# Altium footprint library JR78201054ZBWJ_20170508.PcbLib: 21 footprints (part 1 of 2)
Each footprint in its own frame and in the unit in brackets; x right, y up, seen from the top. Pads: shape width x height; smd on the part's side, far side on the other; paste and mask are expansions set on the pad; w line width, h text height; cw(c..) or ccw(c..) is an arc to the next point about the centre after c.
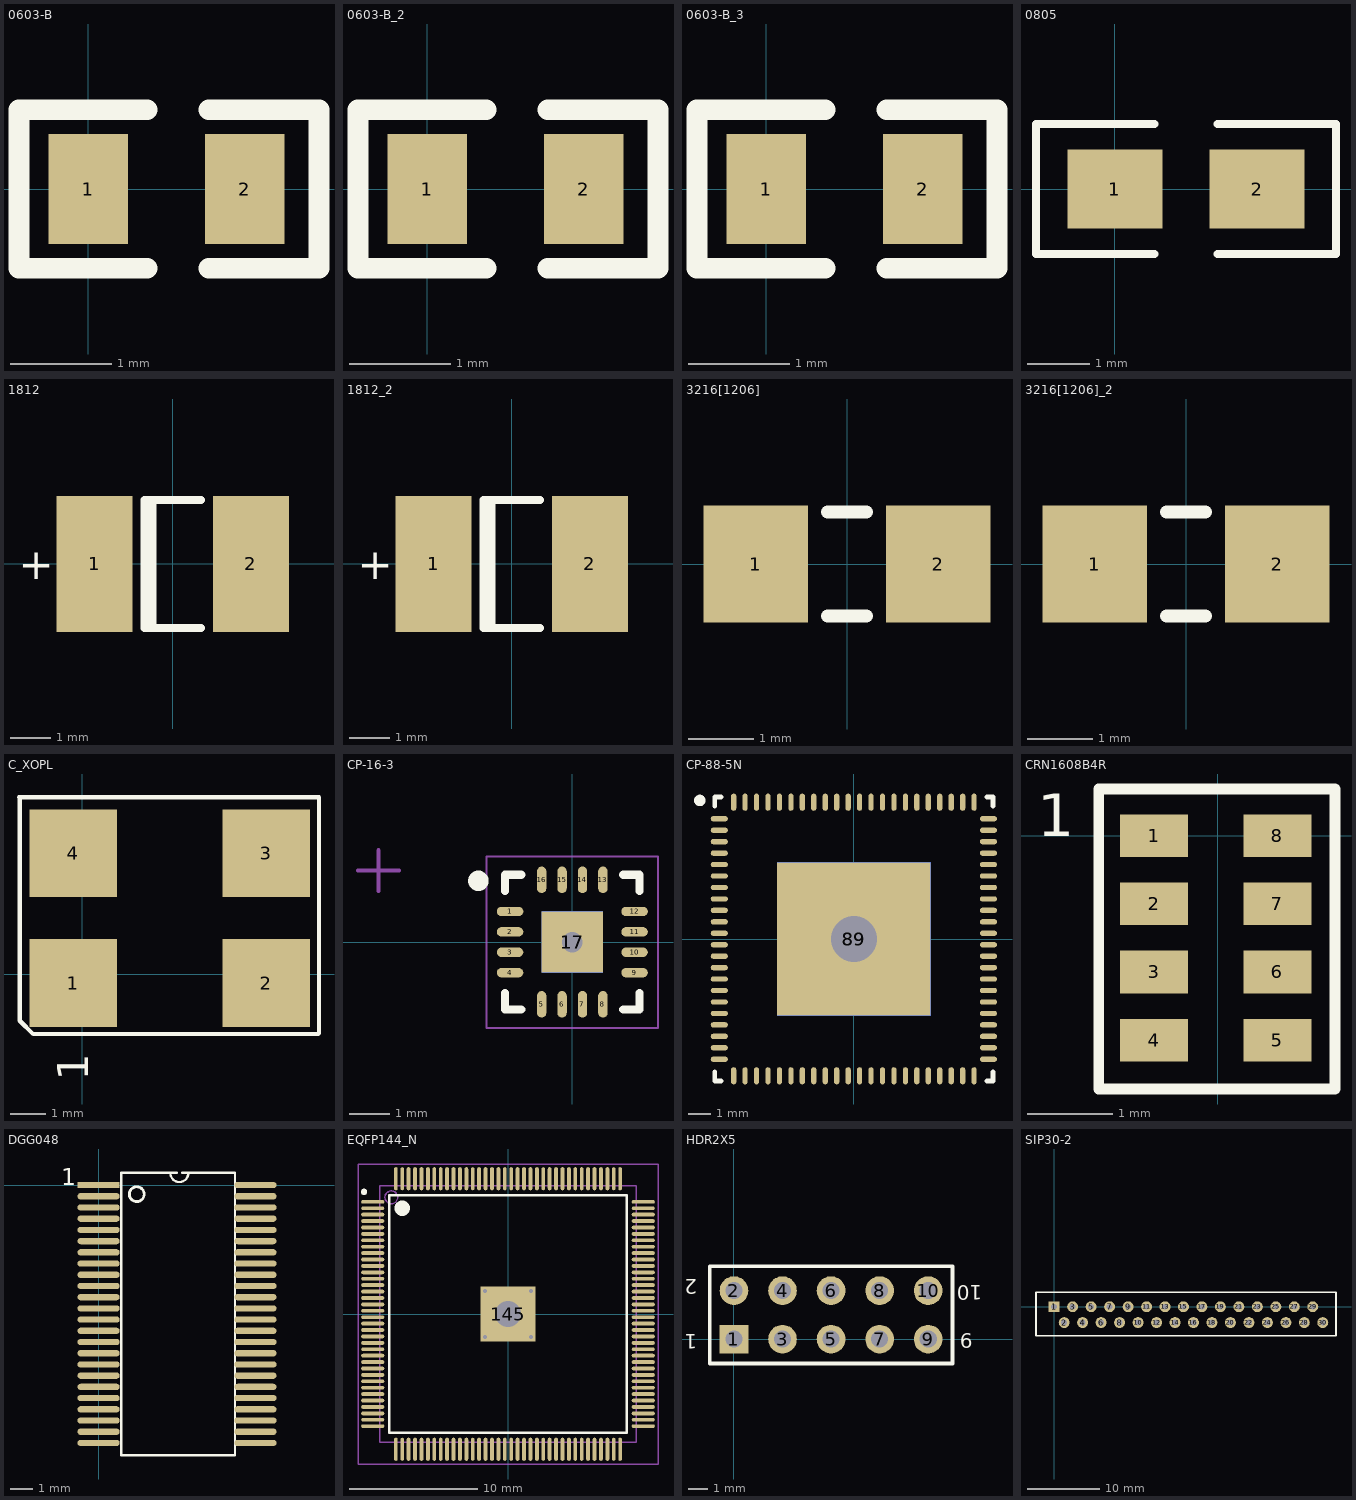
[diagram p0: the footprints below, top view; thin cyan lines are the x and y axes]

## 0603-B [mil]
pads (2):
  rect 31x43 smd: 1(0,0) 2(61,0)
Top Overlay:
  lines w8: 23,-31 -27,-31 -27,31 23,31 ; 47,-31 90,-31 90,31 47,31

## 0603-B_2 [mil]
pads (2):
  rect 31x43 smd: 1(0,0) 2(61,0)
Top Overlay:
  lines w8: 23,-31 -27,-31 -27,31 23,31 ; 47,-31 90,-31 90,31 47,31

## 0603-B_3 [mil]
pads (2):
  rect 31x43 smd: 1(0,0) 2(61,0)
Top Overlay:
  lines w8: 23,-31 -27,-31 -27,31 23,31 ; 47,-31 90,-31 90,31 47,31

## 0805 [mil]
pads (2):
  rect 60x50 smd: 1(0,0) 2(90,0)
Top Overlay:
  lines w5: 25,-41.06 -50,-41.06 -50,41.06 25,41.06 ; 65,-41.06 140,-41.06 140,41.06 65,41.06

## 1812 [mm]
height 1.6
pads (2):
  rect 1.9x3.4 smd: 1(-1.95,0) 2(1.95,0)
Top Overlay:
  lines w0.2: -0.51,-1.6 -0.51,1.6 ; 0.7,-1.6 -0.7,-1.6 -0.7,1.6 0.7,1.6
  text "+" at -3.835,-0.381 h0.76

## 1812_2 [mm]
pads (2):
  rect 1.9x3.4 smd: 1(-1.95,0) 2(1.95,0)
Top Overlay:
  lines w0.2: -0.51,-1.6 -0.51,1.6 ; 0.7,-1.6 -0.7,-1.6 -0.7,1.6 0.7,1.6
  text "+" at -3.835,-0.381 h0.76

## 3216[1206] [mm]
height 0.55
pads (2):
  rect 1.6x1.8 smd: 1(-1.4,0) 2(1.4,0)
Top Overlay:
  lines w0.2: -0.3,-0.8 0.3,-0.8 ; -0.3,0.8 0.3,0.8

## 3216[1206]_2 [mm]
pads (2):
  rect 1.6x1.8 smd: 1(-1.4,0) 2(1.4,0)
Top Overlay:
  lines w0.2: -0.3,-0.8 0.3,-0.8 ; -0.3,0.8 0.3,0.8

## C_XOPL [mm]
height 8.89
pads (4):
  rect 2.5x2.5 smd: 1(-0.25,-0.25) 2(5.25,-0.25) 3(5.25,3.45) 4(-0.25,3.45)
Top Overlay:
  lines w0.127: -1.8,5.05 -1.775,5.025 -1.775,-1.325 -1.4,-1.7 6.725,-1.7 6.75,-1.675 6.75,5.05 -1.8,5.05
  text "1" at 0.168,-3.036 h0.89

## CP-16-3 [mm]
height 0.9
pads (18):
  oval 0.65x0.23 smd: 1(-1.525,0.75) 2(-1.525,0.25) 3(-1.525,-0.25) 4(-1.525,-0.75) 9(1.525,-0.75) 10(1.525,-0.25) 11(1.525,0.25) 12(1.525,0.75)
  oval 0.23x0.65 smd: 5(-0.75,-1.525) 6(-0.25,-1.525) 7(0.25,-1.525) 8(0.75,-1.525) 13(0.75,1.525) 14(0.25,1.525) 15(-0.25,1.525) 16(-0.75,1.525)
  rect 1.5x1.5 smd: 17(0,0)
  rect 1.5x1.5 smd far side: 17(0,0)
via 0,0 diameter 0.835 hole 0.5
Top Overlay:
  circle w0.25: c-2.3,1.5 r0.125
  lines w0.2: -1.65,-1.25 -1.65,-1.65 -1.25,-1.65 ; -1.65,1.25 -1.65,1.65 -1.25,1.65 ; 1.25,-1.65 1.65,-1.65 1.65,-1.25 ; 1.25,1.65 1.65,1.65 1.65,1.25
Mechanical 15:
  lines w0.05: -2.1,-2.1 -2.1,2.1 2.1,2.1 2.1,-2.1 -2.1,-2.1
  lines w0.1: -5.25,1.75 -4.25,1.75 ; -4.75,1.25 -4.75,2.25 ; -0.5,0 0.5,0 ; 0,-0.5 0,0.5

## CP-88-5N [mm]
height 0.9
pads (90):
  oval 0.75x0.23 smd: 1(-5.875,5.25) 2(-5.875,4.75) 3(-5.875,4.25) 4(-5.875,3.75) 5(-5.875,3.25) 6(-5.875,2.75) 7(-5.875,2.25) 8(-5.875,1.75) 9(-5.875,1.25) 10(-5.875,0.75) 11(-5.875,0.25) 12(-5.875,-0.25) 13(-5.875,-0.75) 14(-5.875,-1.25) 15(-5.875,-1.75) 16(-5.875,-2.25) 17(-5.875,-2.75) 18(-5.875,-3.25) 19(-5.875,-3.75) 20(-5.875,-4.25) 21(-5.875,-4.75) 22(-5.875,-5.25) 45(5.875,-5.25) 46(5.875,-4.75) 47(5.875,-4.25) 48(5.875,-3.75) 49(5.875,-3.25) 50(5.875,-2.75) 51(5.875,-2.25) 52(5.875,-1.75) 53(5.875,-1.25) 54(5.875,-0.75) 55(5.875,-0.25) 56(5.875,0.25) 57(5.875,0.75) 58(5.875,1.25) 59(5.875,1.75) 60(5.875,2.25) 61(5.875,2.75) 62(5.875,3.25) 63(5.875,3.75) 64(5.875,4.25) 65(5.875,4.75) 66(5.875,5.25)
  oval 0.23x0.75 smd: 23(-5.25,-5.975) 24(-4.75,-5.975) 25(-4.25,-5.975) 26(-3.75,-5.975) 27(-3.25,-5.975) 28(-2.75,-5.975) 29(-2.25,-5.975) 30(-1.75,-5.975) 31(-1.25,-5.975) 32(-0.75,-5.975) 33(-0.25,-5.975) 34(0.25,-5.975) 35(0.75,-5.975) 36(1.25,-5.975) 37(1.75,-5.975) 38(2.25,-5.975) 39(2.75,-5.975) 40(3.25,-5.975) 41(3.75,-5.975) 42(4.25,-5.975) 43(4.75,-5.975) 44(5.25,-5.975) 67(5.25,5.975) 68(4.75,5.975) 69(4.25,5.975) 70(3.75,5.975) 71(3.25,5.975) 72(2.75,5.975) 73(2.25,5.975) 74(1.75,5.975) 75(1.25,5.975) 76(0.75,5.975) 77(0.25,5.975) 78(-0.25,5.975) 79(-0.75,5.975) 80(-1.25,5.975) 81(-1.75,5.975) 82(-2.25,5.975) 83(-2.75,5.975) 84(-3.25,5.975) 85(-3.75,5.975) 86(-4.25,5.975) 87(-4.75,5.975) 88(-5.25,5.975)
  rect 6.7x6.7 smd: 89(0,0)
  rect 6.7x6.7 smd far side: 89(0,0)
via 0,0 diameter 2.5 hole 2
Top Overlay:
  circle w0.25: c-6.725,6.05 r0.125
  lines w0.2: -6.075,-5.8 -6.075,-6.2 -5.8,-6.2 ; -6.075,5.8 -6.075,6.2 -5.8,6.2 ; 5.8,-6.2 6.075,-6.2 6.075,-5.8 ; 5.8,6.2 6.075,6.2 6.075,5.8

## CRN1608B4R [mm]
height 0.55
pads (8):
  rect 0.8x0.5 smd: 1(-0.75,0) 2(-0.75,-0.8) 3(-0.75,-1.6) 4(-0.75,-2.4) 5(0.7,-2.4) 6(0.7,-1.6) 7(0.7,-0.8) 8(0.7,0)
Top Overlay:
  lines w0.127: 1.35,-2.975 0,-2.975 -1.4,-2.975 -1.4,0.55 1.375,0.55 1.375,-2.975
  text "1" at -2.124,-0.003 h0.5

## DGG048 [mil] "D?"
pads (48):
  rect 74x11 smd: 1(0,0)
  oval 74x11 smd: 2(0,-19.69) 3(0,-39.37) 4(0,-59.06) 5(0,-78.74) 6(0,-98.43) 7(0,-118.11) 8(0,-137.8) 9(0,-157.48) 10(0,-177.17) 11(0,-196.85) 12(0,-216.54) 13(0,-236.22) 14(0,-255.91) 15(0,-275.59) 16(0,-295.28) 17(0,-314.96) 18(0,-334.65) 19(0,-354.33) 20(0,-374.02) 21(0,-393.7) 22(0,-413.39) 23(0,-433.07) 24(0,-452.76) 25(275.41,-452.76) 26(275.41,-433.07) 27(275.41,-413.39) 28(275.41,-393.7) 29(275.41,-374.02) 30(275.41,-354.33) 31(275.41,-334.65) 32(275.41,-314.96) 33(275.41,-295.28) 34(275.41,-275.59) 35(275.41,-255.91) 36(275.41,-236.22) 37(275.41,-216.54) 38(275.41,-196.85) 39(275.41,-177.17) 40(275.41,-157.48) 41(275.41,-137.8) 42(275.41,-118.11) 43(275.41,-98.43) 44(275.41,-78.74) 45(275.41,-59.06) 46(275.41,-39.37) 47(275.41,-19.69) 48(275.41,0)
Top Overlay:
  circle w4.92: c67,-16 r13.04
  lines w3.94: 126,21 ccw(c141.75,21) 157.5,21 ; 137.13,21.65 39.62,21.65 39.62,-474.41 239.62,-474.41 239.62,21.65 146.97,21.65
  text "1" at -65.18,0 h30

## EQFP144_N [mm]
pads (145):
  oval 1.8x0.3 smd: 1(-10.55,8.75) 2(-10.55,8.25) 3(-10.55,7.75) 4(-10.55,7.25) 5(-10.55,6.75) 6(-10.55,6.25) 7(-10.55,5.75) 8(-10.55,5.25) 9(-10.55,4.75) 10(-10.55,4.25) 11(-10.55,3.75) 12(-10.55,3.25) 13(-10.55,2.75) 14(-10.55,2.25) 15(-10.55,1.75) 16(-10.55,1.25) 17(-10.55,0.75) 18(-10.55,0.25) 19(-10.55,-0.25) 20(-10.55,-0.75) 21(-10.55,-1.25) 22(-10.55,-1.75) 23(-10.55,-2.25) 24(-10.55,-2.75) 25(-10.55,-3.25) 26(-10.55,-3.75) 27(-10.55,-4.25) 28(-10.55,-4.75) 29(-10.55,-5.25) 30(-10.55,-5.75) 31(-10.55,-6.25) 32(-10.55,-6.75) 33(-10.55,-7.25) 34(-10.55,-7.75) 35(-10.55,-8.25) 36(-10.55,-8.75) 73(10.55,-8.75) 74(10.55,-8.25) 75(10.55,-7.75) 76(10.55,-7.25) 77(10.55,-6.75) 78(10.55,-6.25) 79(10.55,-5.75) 80(10.55,-5.25) 81(10.55,-4.75) 82(10.55,-4.25) 83(10.55,-3.75) 84(10.55,-3.25) 85(10.55,-2.75) 86(10.55,-2.25) 87(10.55,-1.75) 88(10.55,-1.25) 89(10.55,-0.75) 90(10.55,-0.25) 91(10.55,0.25) 92(10.55,0.75) 93(10.55,1.25) 94(10.55,1.75) 95(10.55,2.25) 96(10.55,2.75) 97(10.55,3.25) 98(10.55,3.75) 99(10.55,4.25) 100(10.55,4.75) 101(10.55,5.25) 102(10.55,5.75) 103(10.55,6.25) 104(10.55,6.75) 105(10.55,7.25) 106(10.55,7.75) 107(10.55,8.25) 108(10.55,8.75)
  oval 0.3x1.8 smd: 37(-8.75,-10.55) 38(-8.25,-10.55) 39(-7.75,-10.55) 40(-7.25,-10.55) 41(-6.75,-10.55) 42(-6.25,-10.55) 43(-5.75,-10.55) 44(-5.25,-10.55) 45(-4.75,-10.55) 46(-4.25,-10.55) 47(-3.75,-10.55) 48(-3.25,-10.55) 49(-2.75,-10.55) 50(-2.25,-10.55) 51(-1.75,-10.55) 52(-1.25,-10.55) 53(-0.75,-10.55) 54(-0.25,-10.55) 55(0.25,-10.55) 56(0.75,-10.55) 57(1.25,-10.55) 58(1.75,-10.55) 59(2.25,-10.55) 60(2.75,-10.55) 61(3.25,-10.55) 62(3.75,-10.55) 63(4.25,-10.55) 64(4.75,-10.55) 65(5.25,-10.55) 66(5.75,-10.55) 67(6.25,-10.55) 68(6.75,-10.55) 69(7.25,-10.55) 70(7.75,-10.55) 71(8.25,-10.55) 72(8.75,-10.55) 109(8.75,10.55) 110(8.25,10.55) 111(7.75,10.55) 112(7.25,10.55) 113(6.75,10.55) 114(6.25,10.55) 115(5.75,10.55) 116(5.25,10.55) 117(4.75,10.55) 118(4.25,10.55) 119(3.75,10.55) 120(3.25,10.55) 121(2.75,10.55) 122(2.25,10.55) 123(1.75,10.55) 124(1.25,10.55) 125(0.75,10.55) 126(0.25,10.55) 127(-0.25,10.55) 128(-0.75,10.55) 129(-1.25,10.55) 130(-1.75,10.55) 131(-2.25,10.55) 132(-2.75,10.55) 133(-3.25,10.55) 134(-3.75,10.55) 135(-4.25,10.55) 136(-4.75,10.55) 137(-5.25,10.55) 138(-5.75,10.55) 139(-6.25,10.55) 140(-6.75,10.55) 141(-7.25,10.55) 142(-7.75,10.55) 143(-8.25,10.55) 144(-8.75,10.55)
  rect 4.3x4.3 smd: 145(0,0)
via -1.8,-1.8 diameter 0.66 hole 0.305
via 0,0 diameter 2.5 hole 2
via 1.8,1.8 diameter 0.66 hole 0.305
via -1.8,1.8 diameter 0.66 hole 0.305
via 1.8,-1.8 diameter 0.66 hole 0.305
Top Overlay:
  circle w0.25: c-11.229,9.525 r0.125
  circle w0.6: c-8.25,8.25 r0.3
  lines w0.2: -9.25,-9.25 -9.25,9.25 9.25,9.25 9.25,-9.25 -9.25,-9.25
Mechanical 15:
  circle w0.1: c-9.1,9.1 r0.5
  lines w0.1: -0.5,0 0.5,0 ; 0,-0.5 0,0.5 ; -11.7,-11.7 -11.7,11.7 11.7,11.7 11.7,-11.7 -11.7,-11.7 ; -10,-10 10,-10 10,10 -10,10 -10,-10
3D body: height 1.6, standoff 0, extent -10,-10 10,10

## HDR2X5 [mm] "Connector; Header; 5x2 Position"
height 1.6
pads (10):
  rect 1.5x1.5 hole 0.9: 1(0,0)
  round 1.5 hole 0.9: 2(0,2.54) 3(2.54,0) 4(2.54,2.54) 5(5.08,0) 6(5.08,2.54) 7(7.62,0) 8(7.62,2.54) 9(10.16,0) 10(10.16,2.54)
Top Overlay:
  lines w0.2: -1.27,-1.27 11.43,-1.27 11.43,3.81 -1.27,3.81 -1.27,-1.27
  text "10" at 13,2.83 h0.76
  text "9" at 12.5,0.305 h0.76
  text "1" at -1.909,0.269 h0.76
  text "2" at -1.934,3.139 h0.76

## SIP30-2 [mm]
height 0.55
pads (30):
  rect 1.5x1.5 hole 0.813: 1(0,0)
  round 1.5 hole 0.813: 2(1.375,-2.175) 3(2.54,0) 4(3.915,-2.175) 5(5.08,0) 6(6.455,-2.175) 7(7.62,0) 8(8.995,-2.175) 9(10.16,0) 10(11.535,-2.175) 11(12.7,0) 12(14.075,-2.175) 13(15.24,0) 14(16.615,-2.175) 15(17.78,0) 16(19.155,-2.175) 17(20.32,0) 18(21.695,-2.175) 19(22.86,0) 20(24.235,-2.175) 21(25.4,0) 22(26.775,-2.175) 23(27.94,0) 24(29.315,-2.175) 25(30.48,0) 26(31.855,-2.175) 27(33.02,0) 28(34.395,-2.175) 29(35.56,0) 30(36.935,-2.175)
Top Overlay:
  lines w0.254: -2.5,-4 38.75,-4 38.75,2 -2.5,2 -2.5,-4